# Altium schematic symbol library SRV05-4HTG-D.SchLib: 2 symbols
Pins are listed as number, name and electrical type; pins without a type are passive.

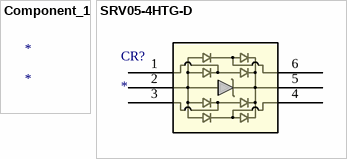
[diagram p0: symbols Component_1 to SRV05-4HTG-D]

## Component_1
designator *

## SRV05-4HTG-D
designator CR?
No Description Available; Mfr_Name: Littelfuse Inc; RefDes: RefDes; Type: Type
footprint SOIC6_SOT23-6_CRA_LTF
pins: 1, 2, 3, 4, 5, 6